# EAGLE library part MAX16839 (library MAX16839 LED Driver, constant current)
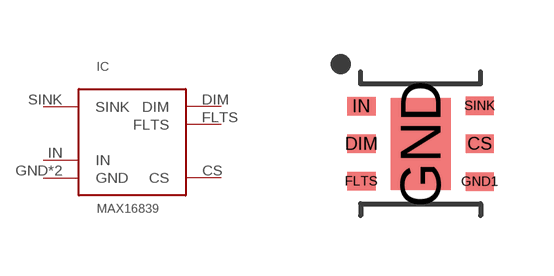
[diagram p0: symbol with the pads of TDFN-6-EP; footprint TDFN-6-EP]

Designator prefix IC

## MAX16839  [TDFN-6-EP]
CS  CS
DIM  DIM
FLTS  FLTS
GND  GND  pwr
GND1  GND  pwr
IN  IN  pwr
SINK  SINK  pwr

## Footprint TDFN-6-EP (pad centres in mm)
smd 0.71 x 0.46: CS 1.48,0; DIM -1.48,0; FLTS -1.48,-0.94; GND1 1.48,-0.95; IN -1.48,0.94; SINK 1.48,0.95
smd 1.5 x 2.3: GND 0,0